# Altium schematic symbol library Schematics Library.SchLib: 10 symbols
Pins are listed as number, name and electrical type; pins without a type are passive.

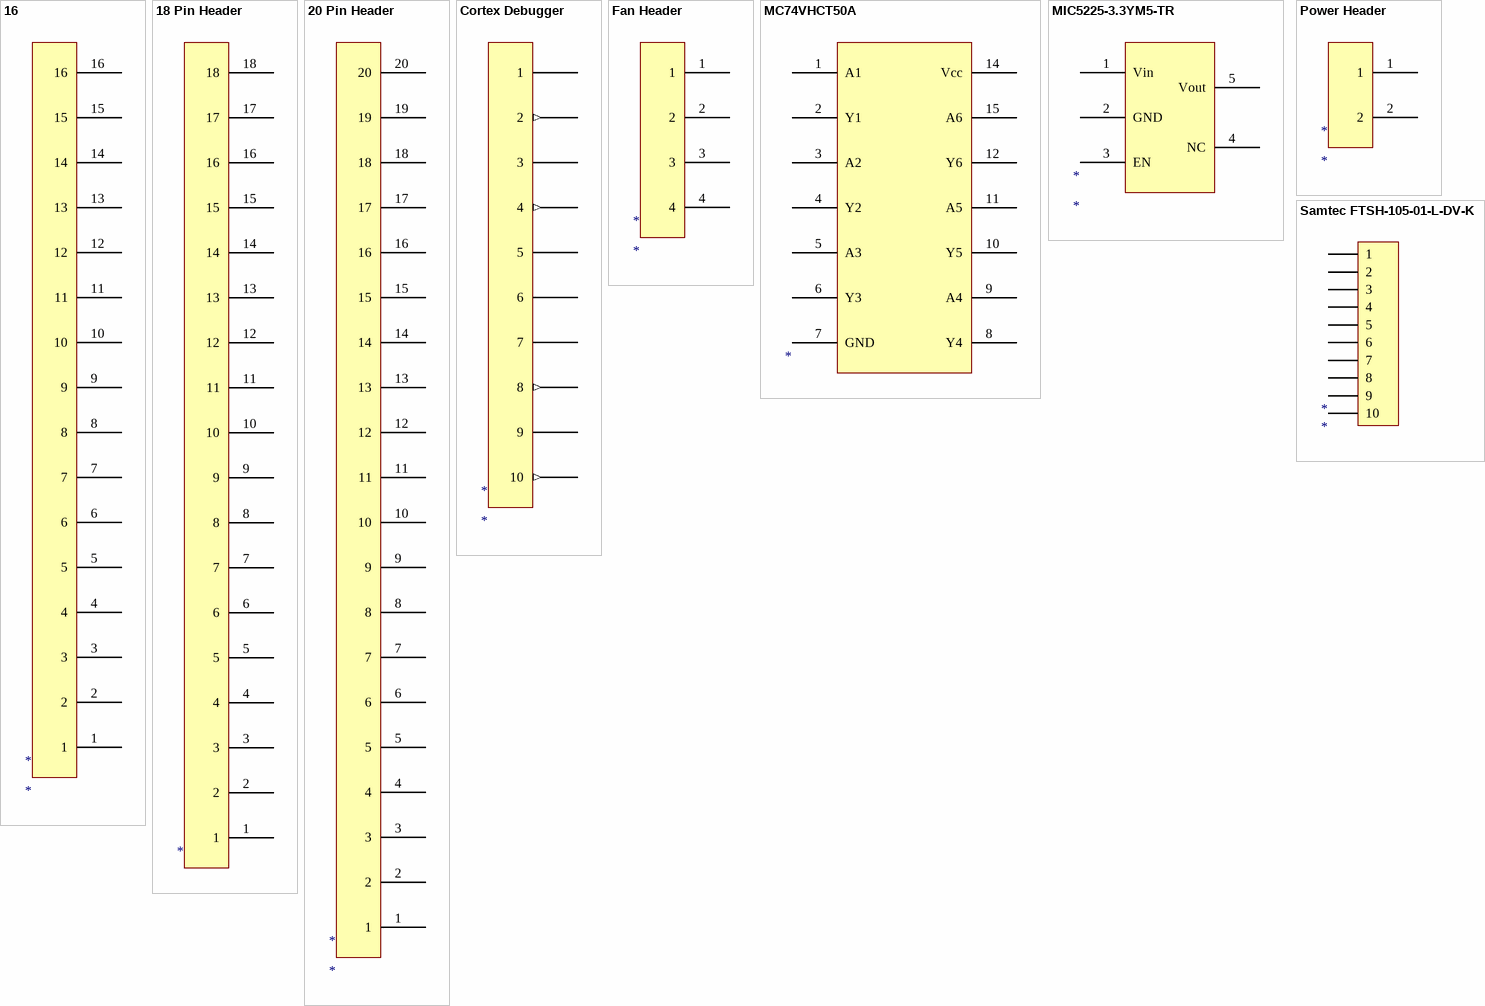
[diagram p0: symbols 16 to Samtec FTSH-105-01-L-DV-K]

## 16
designator *
16 Position header
pins: 1 (power), 2 (power), 3 (power), 4 (power), 5 (power), 6 (power), 7 (power), 8 (power), 9 (power), 10 (power), 11 (power), 12 (power), 13 (power), 14 (power), 15 (power), 16 (power)

## 18 Pin Header
designator *
18 Position Header
pins: 1 (power), 2 (power), 3 (power), 4 (power), 5 (power), 6 (power), 7 (power), 8 (power), 9 (power), 10 (power), 11 (power), 12 (power), 13 (power), 14 (power), 15 (power), 16 (power), 17 (power), 18 (power)

## 20 Pin Header
designator *
20 position header
footprint 10PIN_CONNECTOR
pins: 1 (power), 2 (power), 3 (power), 4 (power), 5 (power), 6 (power), 7 (power), 8 (power), 9 (power), 10 (power), 11 (power), 12 (power), 13 (power), 14 (power), 15 (power), 16 (power), 17 (power), 18 (power), 19 (power), 20 (power)

## Cortex Debugger
designator *
Header; Supplier 1: Digi-Key
pins: 1 (power), 2 (out), 3 (power), 4 (out), 5 (power), 6, 7, 8 (out), 9 (power), 10 (out)

## Fan Header
designator *
Fan Header
pins: 1 (power), 2 (power), 3 (power), 4 (power)

## MC74VHCT50A
designator *  (value not drawn)
6-Channel CMOS Buffer
pins: 1 A1 (power), 2 Y1 (power), 3 A2 (power), 4 Y2 (power), 5 A3 (power), 6 Y3 (power), 7 GND (power), 8 Y4 (power), 9 A4 (power), 10 Y5 (power), 11 A5 (power), 12 Y6 (power), 14 Vcc (power), 15 A6 (power)

## MIC5225-3.3YM5-TR
designator *
12V-3.3V Linear Regulator
pins: 1 Vin, 2 GND, 3 EN, 4 NC, 5 Vout

## Power Header
designator *
Power Header
pins: 1 (power), 2 (power)

## Samtec FTSH-105-01-L-DV-K
designator *
10-Pin 1.27mm Shrouded Cortex Debug Connector; Supplier 1: Digi-Key; Supplier Part Number 1: SAM8799-ND
footprint Samtec FTSH-105-01-L-DV-K (10-Pin 1.27mm Shrouded Header)
pins: 1, 2, 3, 4, 5, 6, 7, 8, 9, 10

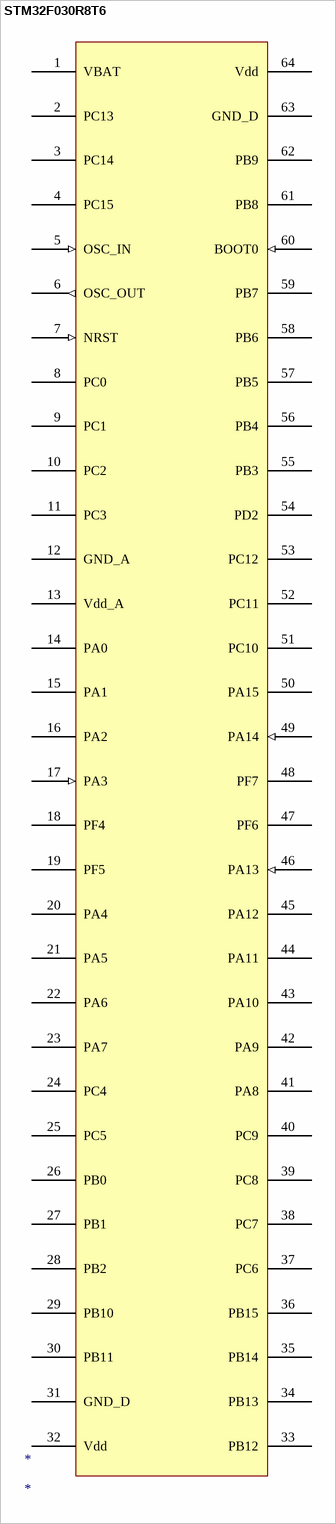
[diagram p1: symbol STM32F030R8T6]

## STM32F030R8T6
designator *
MCU
pins: 1 VBAT (power) "Backup power supply", 2 PC13 (power), 3 PC14 (power), 4 PC15 (power), 5 OSC_IN (in), 6 OSC_OUT (out), 7 NRST (in), 8 PC0 (power), 9 PC1 (power), 10 PC2 (power), 11 PC3 (power), 12 GND_A (power), 13 Vdd_A (power), 14 PA0 (power), 15 PA1 (power), 16 PA2 (power), 17 PA3 (in), 18 PF4 (power), 19 PF5 (power), 20 PA4 (power), 21 PA5 (power), 22 PA6 (power), 23 PA7 (power), 24 PC4 (power), 25 PC5 (power), 26 PB0 (power), 27 PB1 (power), 28 PB2 (power), 29 PB10 (power), 30 PB11 (power), 31 GND_D (power), 32 Vdd (power), 33 PB12 (power), 34 PB13 (power), 35 PB14 (power), 36 PB15 (power), 37 PC6 (power), 38 PC7 (power), 39 PC8 (power), 40 PC9 (power), 41 PA8 (power), 42 PA9 (power), 43 PA10 (power), 44 PA11 (power), 45 PA12 (power), 46 PA13 (in), 47 PF6 (power), 48 PF7 (power), 49 PA14 (in), 50 PA15 (power), 51 PC10 (power), 52 PC11 (power), 53 PC12 (power), 54 PD2 (power), 55 PB3 (power), 56 PB4 (power), 57 PB5 (power), 58 PB6 (power), 59 PB7 (power), 60 BOOT0 (in), 61 PB8 (power), 62 PB9 (power), 63 GND_D, 64 Vdd (power) "Digital Input voltage"